# Altium schematic symbol library FDS6690A.SchLib: 1 symbol
Pins are listed as number, name and electrical type; pins without a type are passive.

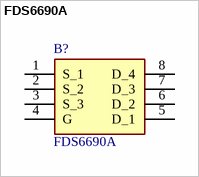
[diagram p0: symbol FDS6690A]

## FDS6690A
designator B?
FDS6690A, N-channel MOSFET Transistor 11 A 30 V, 8-Pin SOIC; Manufacturer_Name: onsemi; Geometry.Height: 1.75mm; Mouser Part Number: 512-FDS6690A; Mouser Price/Stock: https://www.mouser.co.uk/ProductDetail/onsemi-Fairchild/FDS6690A?qs=HK%252BeIG1iaajCQ7GvPyNvug%3D%3D; Manufacturer_Part_Number: FDS6690A; Datasheet Link: https://datasheet.datasheetarchive.com/originals/distributors/Datasheets_SAMA/7499f5650a82e511eeed916ae198c5af.pdf
footprint SOIC127P600X175-8N
pins: 1 S_1, 2 S_2, 3 S_3, 4 G, 5 D_1, 6 D_2, 7 D_3, 8 D_4